# Altium schematic symbol library iuh-thuc-hanh.SchLib: 139 symbols
Pins are listed as number, name and electrical type; pins without a type are passive.

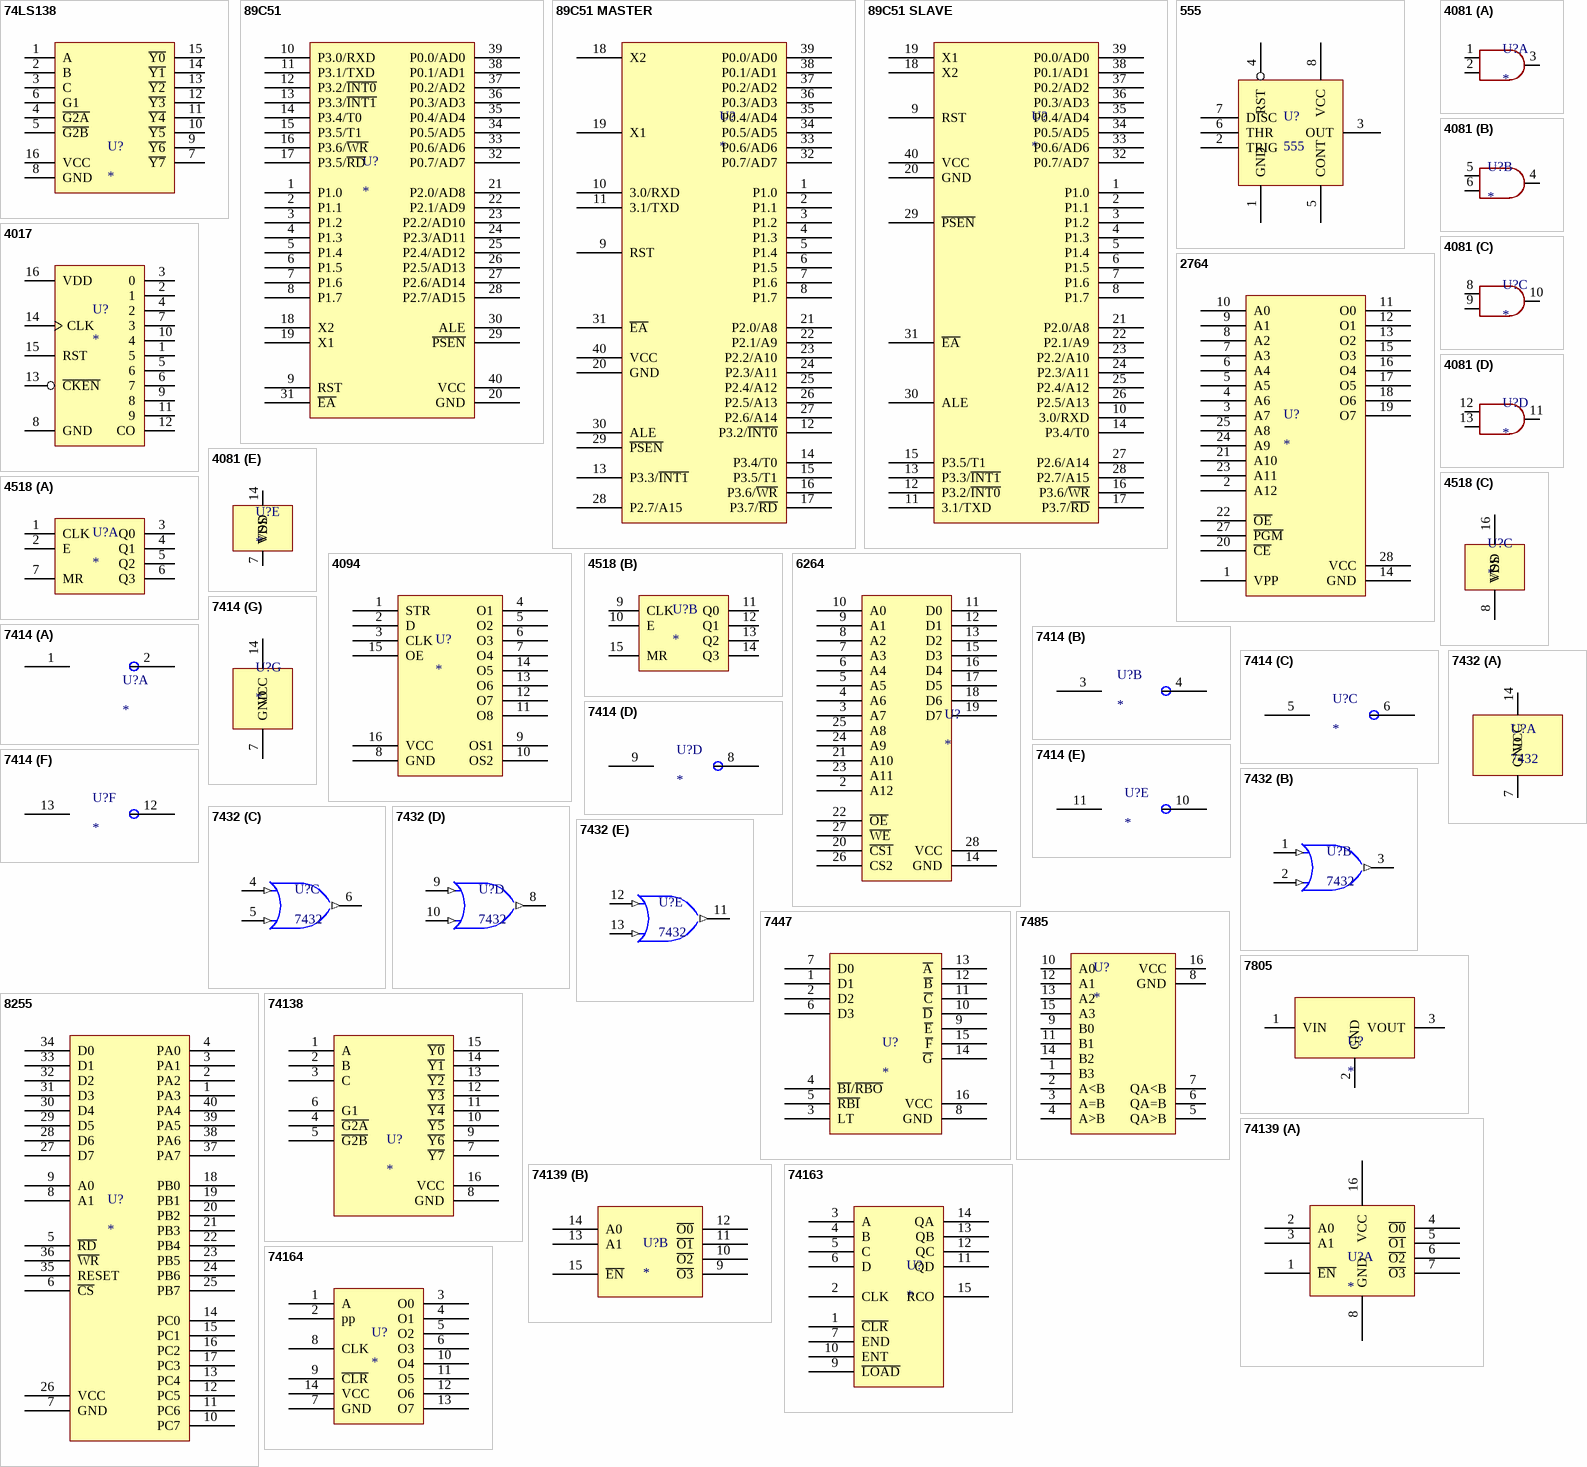
[diagram p0: symbols 74LS138 to 74164]

## 74LS138
designator U?
footprint DIP16 (16 PIN, W 300mil, Pin to pin 100mil)
pins: 1 A, 2 B, 3 C, 4 ~{G2A}, 5 ~{G2B}, 6 G1, 7 ~{Y7}, 8 GND, 9 ~{Y6}, 10 ~{Y5}, 11 ~{Y4}, 12 ~{Y3}, 13 ~{Y2}, 14 ~{Y1}, 15 ~{Y0}, 16 VCC

## 89C51
designator U?
footprint DIP40/W0.6 (40 PIN, W 600mil, Pin to pin 100mil)
pins: 1 P1.0, 2 P1.1, 3 P1.2, 4 P1.3, 5 P1.4, 6 P1.5, 7 P1.6, 8 P1.7, 9 RST, 10 P3.0/RXD, 11 P3.1/TXD, 12 P3.2/~{INT0}, 13 P3.3/~{INT1}, 14 P3.4/T0, 15 P3.5/T1, 16 P3.6/~{WR}, 17 P3.5/~{RD}, 18 X2, 19 X1, 20 GND, 21 P2.0/AD8, 22 P2.1/AD9, 23 P2.2/AD10, 24 P2.3/AD11, 25 P2.4/AD12, 26 P2.5/AD13, 27 P2.6/AD14, 28 P2.7/AD15, 29 ~{PSEN}, 30 ALE, 31 ~{EA}, 32 P0.7/AD7, 33 P0.6/AD6, 34 P0.5/AD5, 35 P0.4/AD4, 36 P0.3/AD3, 37 P0.2/AD2, 38 P0.1/AD1, 39 P0.0/AD0, 40 VCC

## 89C51 MASTER
designator U?
footprint DIP40/W0.6 (40 PIN, W 600mil, Pin to pin 100mil)
pins: 1 P1.0, 2 P1.1, 3 P1.2, 4 P1.3, 5 P1.4, 6 P1.5, 7 P1.6, 8 P1.7, 9 RST, 10 3.0/RXD, 11 3.1/TXD, 12 P3.2/~{INT0}, 13 P3.3/~{INT1}, 14 P3.4/T0, 15 P3.5/T1, 16 P3.6/~{WR}, 17 P3.7/~{RD}, 18 X2, 19 X1, 20 GND, 21 P2.0/A8, 22 P2.1/A9, 23 P2.2/A10, 24 P2.3/A11, 25 P2.4/A12, 26 P2.5/A13, 27 P2.6/A14, 28 P2.7/A15, 29 ~{PSEN}, 30 ALE, 31 ~{EA}, 32 P0.7/AD7, 33 P0.6/AD6, 34 P0.5/AD5, 35 P0.4/AD4, 36 P0.3/AD3, 37 P0.2/AD2, 38 P0.1/AD1, 39 P0.0/AD0, 40 VCC

## 89C51 SLAVE
designator U?
pins: 1 P1.0, 2 P1.1, 3 P1.2, 4 P1.3, 5 P1.4, 6 P1.5, 7 P1.6, 8 P1.7, 9 RST, 10 3.0/RXD, 11 3.1/TXD, 12 P3.2/~{INT0}, 13 P3.3/~{INT1}, 14 P3.4/T0, 15 P3.5/T1, 16 P3.6/~{WR}, 17 P3.7/~{RD}, 18 X2, 19 X1, 20 GND, 21 P2.0/A8, 22 P2.1/A9, 23 P2.2/A10, 24 P2.3/A11, 25 P2.4/A12, 26 P2.5/A13, 27 P2.6/A14, 28 P2.7/A15, 29 ~{PSEN}, 30 ALE, 31 ~{EA}, 32 P0.7/AD7, 33 P0.6/AD6, 34 P0.5/AD5, 35 P0.4/AD4, 36 P0.3/AD3, 37 P0.2/AD2, 38 P0.1/AD1, 39 P0.0/AD0, 40 VCC

## 555
designator U?
LM555; Manufacturer: National Semiconductor Corporation; ComponentLink1Description: Datasheet; ComponentLink1URL: https://datasheet.ciiva.com/19457/840579-19457377.pdf?src-supplier=Jameco
footprint DIP8 (8 PIN, Width 300mil, Pin to pin 100mil)
pins: 1 GND, 2 TRIG, 3 OUT, 4 RST, 5 CONT, 6 THR, 7 DISC, 8 VCC

## 2764
designator U?
pins: 1 VPP, 2 A12, 3 A7, 4 A6, 5 A5, 6 A4, 7 A3, 8 A2, 9 A1, 10 A0, 11 O0, 12 O1, 13 O2, 14 GND, 15 O3, 16 O4, 17 O5, 18 O6, 19 O7, 20 ~{CE}, 21 A10, 22 ~{OE}, 23 A11, 24 A9, 25 A8, 27 ~{PGM}, 28 VCC

## 4017
designator U?
footprint DIP16 (16 PIN, W 300mil, Pin to pin 100mil)
footprint SO16 (SOIC, 16-Leads, Body 9.90x3.91mm, Pitch 1.27mm, IPC Medium Density)
pins: 1 5, 2 1, 3 0, 4 2, 5 6, 6 7, 7 3, 8 GND, 9 8, 10 4, 11 9, 12 CO, 13 ~{CKEN}, 14 CLK, 15 RST, 16 VDD

## 4081
designator U?
AND LOGIC
footprint DIP14 (W.300/L.900)
part A pins: 1, 2, 3
part B pins: 4, 5, 6
part C pins: 8, 9, 10
part D pins: 11, 12, 13
part E pins: 7 VSS, 14 VDD

## 4094
designator U?
footprint DIP16 (16 PIN, W 300mil, Pin to pin 100mil)
pins: 1 STR, 2 D, 3 CLK, 4 O1, 5 O2, 6 O3, 7 O4, 8 GND, 9 OS1, 10 OS2, 11 O8, 12 O7, 13 O6, 14 O5, 15 OE, 16 VCC

## 4518
designator U?
footprint DIP16 (16 PIN, W 300mil, Pin to pin 100mil)
part A pins: 1 CLK, 2 E, 3 Q0, 4 Q1, 5 Q2, 6 Q3, 7 MR
part B pins: 9 CLK, 10 E, 11 Q0, 12 Q1, 13 Q2, 14 Q3, 15 MR
part C pins: 8 VSS, 16 VDD

## 6264
designator U?
pins: 2 A12, 3 A7, 4 A6, 5 A5, 6 A4, 7 A3, 8 A2, 9 A1, 10 A0, 11 D0, 12 D1, 13 D2, 14 GND, 15 D3, 16 D4, 17 D5, 18 D6, 19 D7, 20 ~{CS1}, 21 A10, 22 ~{OE}, 23 A11, 24 A9, 25 A8, 26 CS2, 27 ~{WE}, 28 VCC

## 7414
designator U?
footprint DIP14 (W.300/L.900)
part A pins: 1, 2
part B pins: 3, 4
part C pins: 5, 6
part D pins: 8, 9
part E pins: 10, 11
part F pins: 12, 13
part G pins: 7 GND, 14 VCC

## 7432
designator U?
OR logic
footprint DIP14 (W.300/L.900)
part A pins: 7 GND, 14 VCC
part B pins: 1 A (in), 2 B (in), 3 Y (out)
part C pins: 4 A (in), 5 B (in), 6 Y (out)
part D pins: 8 Y (out), 9 A (in), 10 B (in)
part E pins: 11 Y (out), 12 A (in), 13 B (in)

## 7447
designator U?
footprint DIP16 (16 PIN, W 300mil, Pin to pin 100mil)
pins: 1 D1, 2 D2, 3 LT, 4 ~{BI}/~{RBO}, 5 ~{RBI}, 6 D3, 7 D0, 8 GND, 9 ~{E}, 10 ~{D}, 11 ~{C}, 12 ~{B}, 13 ~{A}, 14 ~{G}, 15 ~{F}, 16 VCC

## 7485
designator U?
COMPARE IC
footprint DIP16 (16 PIN, W 300mil, Pin to pin 100mil)
pins: 1 B3, 2 A<B, 3 A=B, 4 A>B, 5 QA>B, 6 QA=B, 7 QA<B, 8 GND, 9 B0, 10 A0, 11 B1, 12 A1, 13 A2, 14 B2, 15 A3, 16 VCC

## 7805
designator U?
footprint TO220-123 (TO-220 - 1-2-3)
pins: 1 VIN, 2 GND, 3 VOUT

## 8255
designator U?
pins: 1 PA3, 2 PA2, 3 PA1, 4 PA0, 5 ~{RD}, 6 ~{CS}, 7 GND, 8 A1, 9 A0, 10 PC7, 11 PC6, 12 PC5, 13 PC4, 14 PC0, 15 PC1, 16 PC2, 17 PC3, 18 PB0, 19 PB1, 20 PB2, 21 PB3, 22 PB4, 23 PB5, 24 PB6, 25 PB7, 26 VCC, 27 D7, 28 D6, 29 D5, 30 D4, 31 D3, 32 D2, 33 D1, 34 D0, 35 RESET, 36 ~{WR}, 37 PA7, 38 PA6, 39 PA5, 40 PA4

## 74138
designator U?
footprint DIP16 (16 PIN, W 300mil, Pin to pin 100mil)
pins: 1 A, 2 B, 3 C, 4 ~{G2A}, 5 ~{G2B}, 6 G1, 7 ~{Y7}, 8 GND, 9 ~{Y6}, 10 ~{Y5}, 11 ~{Y4}, 12 ~{Y3}, 13 ~{Y2}, 14 ~{Y1}, 15 ~{Y0}, 16 VCC

## 74139
designator U?
footprint DIP16 (16 PIN, W 300mil, Pin to pin 100mil)
part A pins: 1 ~{EN}, 2 A0, 3 A1, 4 ~{O0}, 5 ~{O1}, 6 ~{O2}, 7 ~{O3}, 8 GND, 16 VCC
part B pins: 9 ~{O3}, 10 ~{O2}, 11 ~{O1}, 12 ~{O0}, 13 A1, 14 A0, 15 ~{EN}

## 74163
designator U?
pins: 1 ~{CLR}, 2 CLK, 3 A, 4 B, 5 C, 6 D, 7 END, 9 ~{LOAD}, 10 ENT, 11 QD, 12 QC, 13 QB, 14 QA, 15 RCO

## 74164
designator U?
footprint DIP14 (W.300/L.900)
pins: 1 A, 2 pp, 3 O0, 4 O1, 5 O2, 6 O3, 7 GND, 8 CLK, 9 ~{CLR}, 10 O4, 11 O5, 12 O6, 13 O7, 14 VCC

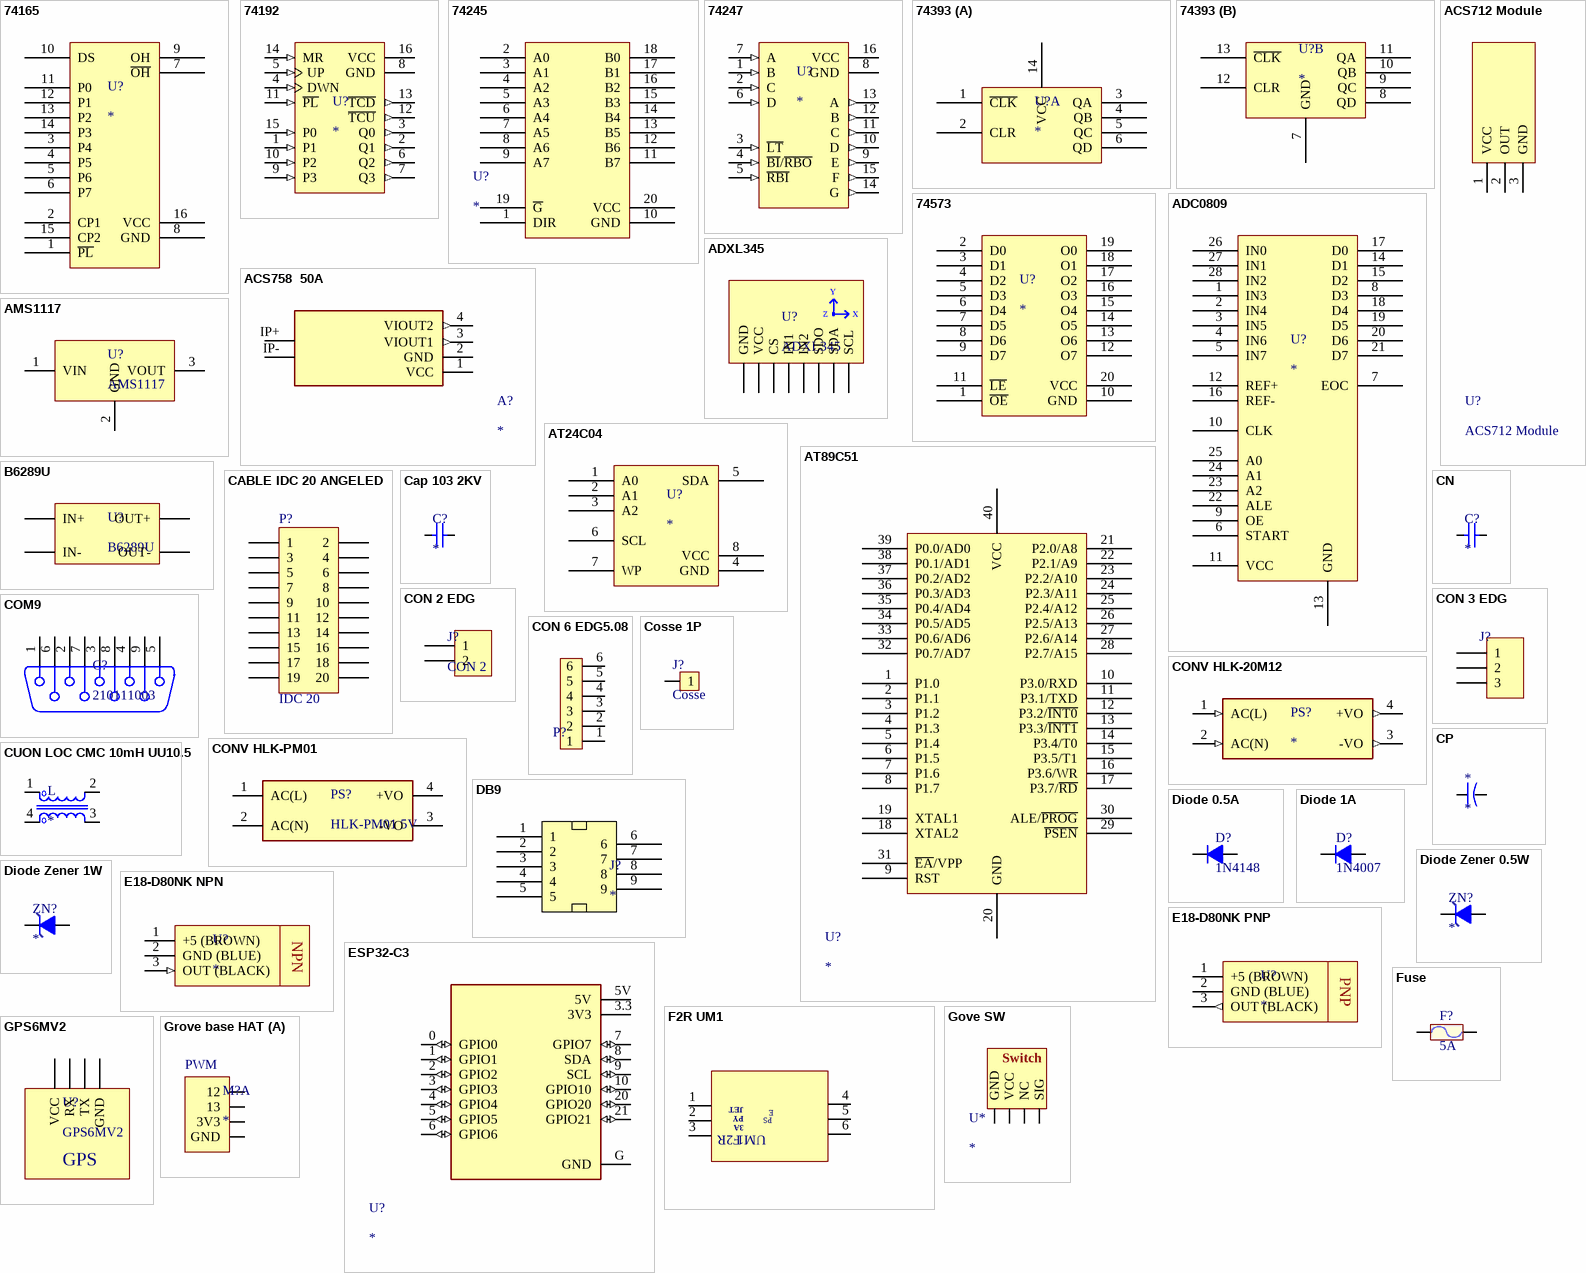
[diagram p1: symbols 74165 to Grove base HAT]

## 74165
designator U?
footprint DIP16 (16 PIN, W 300mil, Pin to pin 100mil)
pins: 1 ~{PL}, 2 CP1, 3 P4, 4 P5, 5 P6, 6 P7, 7 ~{OH}, 8 GND, 9 OH, 10 DS, 11 P0, 12 P1, 13 P2, 14 P3, 15 CP2, 16 VCC

## 74192
designator U?
ComponentLink1Description: Datasheet; ComponentLink1URL: https://pdf1.alldatasheet.com/datasheet-pdf/view/5681/MOTOROLA/74LS192.html
footprint DIP16 (16 PIN, W 300mil, Pin to pin 100mil)
pins: 1 P1 (in), 2 Q1 (out), 3 Q0 (out), 4 DWN (in), 5 UP (in), 6 Q2 (out), 7 Q3 (out), 8 GND (power), 9 P3 (in), 10 P2 (in), 11 ~{PL} (in), 12 ~{TCU} (out), 13 ~{TCD} (out), 14 MR (in), 15 P0 (in), 16 VCC (oe)

## 74245
designator U?
footprint DIP20 (DIP 20, 20 PIN, W 300mil, Pin to pin 100mil)
pins: 1 DIR, 2 A0, 3 A1, 4 A2, 5 A3, 6 A4, 7 A5, 8 A6, 9 A7, 10 GND, 11 B7, 12 B6, 13 B5, 14 B4, 15 B3, 16 B2, 17 B1, 18 B0, 19 ~{G}, 20 VCC

## 74247
designator U?
footprint DIP16 (16 PIN, W 300mil, Pin to pin 100mil)
pins: 1 B (in), 2 C (in), 3 ~{LT} (in), 4 ~{BI}/~{RBO} (in), 5 ~{RBI} (in), 6 D (in), 7 A (in), 8 GND, 9 E (out), 10 D (out), 11 C (out), 12 B (out), 13 A (out), 14 G (out), 15 F (out), 16 VCC

## 74393
designator U?
footprint DIP14 (W.300/L.900)
part A pins: 1 ~{CLK}, 2 CLR, 3 QA, 4 QB, 5 QC, 6 QD, 14 VCC
part B pins: 7 GND, 8 QD, 9 QC, 10 QB, 11 QA, 12 CLR, 13 ~{CLK}

## 74573
designator U?
footprint DIP20 (DIP 20, 20 PIN, W 300mil, Pin to pin 100mil)
pins: 1 ~{OE}, 2 D0, 3 D1, 4 D2, 5 D3, 6 D4, 7 D5, 8 D6, 9 D7, 10 GND, 11 ~{LE}, 12 O7, 13 O6, 14 O5, 15 O4, 16 O3, 17 O2, 18 O1, 19 O0, 20 VCC

## ACS712 Module
designator U?
footprint ACS712 Module
pins: 1 VCC, 2 OUT, 3 GND

## ACS758  50A
designator A?
Current Sensor 50A 1 Channel Hall Effect, Open Loop Unidirectional 5-CB Formed Leads, PFF; MF: Allegro MicroSystems LLC; MP: ACS758LCB-100U-PFF-T; SnapEDA_Link: https://www.snapeda.com/parts/ACS758LCB-100U-PFF-T/Allegro+MicroSystems+LLC/view-part/?ref=snap; Package: 5-CB-5 Allegro MicroSystems LLC; Value: *; Check_prices: https://www.snapeda.com/parts/ACS758LCB-100U-PFF-T/Allegro+MicroSystems+LLC/view-part/?ref=eda
footprint ACS758LCB  50A
pins: 1 VCC (power), 2 GND (power), 3 VIOUT1 (out), 4 VIOUT2 (out), IP+ (power), IP- (power)

## ADC0809
designator U?
pins: 1 IN3, 2 IN4, 3 IN5, 4 IN6, 5 IN7, 6 START, 7 EOC, 8 D3, 9 OE, 10 CLK, 11 VCC, 12 REF+, 13 GND, 14 D1, 15 D2, 16 REF-, 17 D0, 18 D4, 19 D5, 20 D6, 21 D7, 22 ALE, 23 A2, 24 A1, 25 A0, 26 IN0, 27 IN1, 28 IN2

## ADXL345
designator U?
Module Cam bien gia toc
pins: 1 GND, 2 VCC, 3 CS, 4 IN1, 5 IN2, 6 SDO, 7 SDA, 8 SCL
text: Y; Z; X

## AMS1117
designator U?
pins: 1 VIN, 2 GND, 3 VOUT

## AT24C04
designator U?
pins: 1 A0, 2 A1, 3 A2, 4 GND, 5 SDA, 6 SCL, 7 WP, 8 VCC

## AT89C51
designator U?
pins: 1 P1.0, 2 P1.1, 3 P1.2, 4 P1.3, 5 P1.4, 6 P1.5, 7 P1.6, 8 P1.7, 9 RST, 10 P3.0/RXD, 11 P3.1/TXD, 12 P3.2/~{INT0}, 13 P3.3/~{INT1}, 14 P3.4/T0, 15 P3.5/T1, 16 P3.6/WR, 17 P3.7/~{RD}, 18 XTAL2, 19 XTAL1, 20 GND, 21 P2.0/A8, 22 P2.1/A9, 23 P2.2/A10, 24 P2.3/A11, 25 P2.4/A12, 26 P2.5/A13, 27 P2.6/A14, 28 P2.7/A15, 29 ~{PSEN}, 30 ALE/~{PROG}, 31 ~{EA}/VPP, 32 P0.7/AD7, 33 P0.6/AD6, 34 P0.5/AD5, 35 P0.4/AD4, 36 P0.3/AD3, 37 P0.2/AD2, 38 P0.1/AD1, 39 P0.0/AD0, 40 VCC

## B6289U
designator U?
Module Buck Boost 5V
pins: 1 IN+, 2 IN-, 3 OUT+, 4 OUT-

## CABLE IDC 20 ANGELED
designator P?, comment IDC 20
Header, 10-Pin, Dual row; LatestRevisionDate: 17-Jul-2002; LatestRevisionNote: Re-released for DXP Platform.; Publisher: Altium Limited
footprint CABLE IDC 20 ANGELED (Connector; Header; 5x2 Position)
pins: 1, 2, 3, 4, 5, 6, 7, 8, 9, 10, 11, 12, 13, 14, 15, 16, 17, 18, 19, 20

## Cap 103 2KV
designator C?
Capacitor Ceramic 2KV
footprint Cap 7.5mm
pins: 1, 2

## CN
designator C?
Capacitor
footprint Cap 7.5mm
footprint Cap 2.54mm
footprint Cap 3.81mm
footprint Cap 5.08mm
footprint Cap 6.35mm (Tu pin to pin 250mil)
footprint Cap 10mm (Cap np W 0.4)
footprint Cap 15mm
footprint Cap 15mm CBB
footprint Cap 22.5mm
pins: 1, 2

## COM9
designator C?, comment 210111003
DB9 RS232 D-SUB-Filter Connectors WE-DS, Solder Pin Straight; Manufacturer: Würth Elektronik eiSos GmbH; partNo: 210111003; ComponentLink1Description: Manufacturer; ComponentLink1URL: http://www.we-online.de; Created by: Christin Zierenner; Created Date: May 2012; ComponentLink2Description: Datasheet; ComponentLink2URL: http://katalog.we-online.de/kataloge/eisos/index.php?language=en&pf=Filter_gerade
footprint COM9A (D-SUB- 9P, MALE, RT ANGLE, TH)
footprint COM9C (D-SUB- 9P, MALE, SOLDER BUCKET VERTICAL MOUNT, TH)
footprint COM9SMDA (D-SUB- 9P, MALE, RT ANGLE, SMT)
pins: 1, 2, 3, 4, 5, 6, 7, 8, 9

## CON 2 EDG
designator J?, comment CON 2
CON2 KF terminal
footprint Con 2 KF301 5.08
footprint CON 2 KF142 5.08 CONG
footprint CON 2 HB9500 (Header 2: 300V-20A, 2 pin, hight 300mil, Pin to Pin 400, Colour Green)
footprint CON 2 KF7.62
footprint KF2-3.5 (3,50mm - modular - blue - Horizontal wire entry - Pressure clamp - 8,4mm height - 02p)
footprint KF2-7.62
footprint CON 2 HT3.96
footprint CON 2 2EDG5.08
footprint CON 2 2EDG5.08 B
pins: 1, 2

## CON 3 EDG
designator J?
CON3 KF terminal
footprint CON 3 2EDG5.08
footprint CON 3 2EDG5.08 B
footprint KF3-3.96 (3,96mm - modular - green - Horizontal wire entry - Pressure clamp - 10mm height - 03p)
footprint KF3-3.5 (3,50mm - modular - blue - Horizontal wire entry - Pressure clamp - 8,4mm height - 03p)
footprint KF3-3.96-T1 (3,96mm - modular - blue - Horizontal wire entry - Pressure clamp - 10mm height - 03p)
footprint KF3-5.08
footprint KF3-5.08T (Header 3, 3 pin, hight 300mil, Pin to Pin 200, Colour Green)
footprint KF3-7.62
footprint KF3-8.5
footprint KF3-10 (Serie 1368 - 10.00 mm _ 3 pins)
pins: 1, 2, 3

## CON 6 EDG5.08
designator P?, comment CON6  (value not drawn)
Ten_Linh_Kien: CON 8 2EDG5.08-8P 5.08MM ( Xanh Cong); Don_Vi: Con; Ma_Hang: MH000978; Chung_Loai: Cắm; Ghi_Chu: *; Kieu_Chan: *
footprint CON 6 6EDG5.08
pins: 1, 2, 3, 4, 5, 6

## CONV HLK-20M12
designator PS?
20W ultra-small series module power supply; MF: Hi-link; MP: HLK-20M12; Check_prices: https://www.snapeda.com/parts/HLK-20M12/Hi-link/view-part/?ref=eda; SnapEDA_Link: https://www.snapeda.com/parts/HLK-20M12/Hi-link/view-part/?ref=snap; Availability: Not in stock; Price: None; Value: *; Package: Non-Standard Hi-link
footprint CONV_HLK-20W
pins: 1 AC(L) (in), 2 AC(N) (in), 3 -VO (out), 4 +VO (out)

## CONV HLK-PM01
designator PS?, comment HLK-PM01 5V
220VAC to 5V
footprint CONV_HLK-10W
footprint CONV_HLK-5M05-5W
footprint CONV_HLK-PM01-3W
footprint CONV_HLK-20W
pins: 1 AC(L) (power), 2 AC(N) (power), 3 -VO (power), 4 +VO (power)

## Cosse 1P
designator J?, comment Cosse
footprint Cosse 6.3
pins: 1

## CP
designator *
Capacitor
pins: 1, 2

## CUON LOC CMC 10mH UU10.5
designator L
Common Mode Chokes 10mH UU10.5; MP: BU9-103R25BL; MF: Boca Semiconductor; Package: None; SnapEDA_Link: https://www.snapeda.com/parts/BU9-103R25BL/Boca%20Semiconductor/view-part/2767297/?ref=snap; Value: *; Availability: Unavailable; Price: None; VN_link: https://linhkienchatluong.vn/cac-loai-khac/cuon-loc-10mh-08mm-uu16-22x26x19mm_sp925_ct9256.aspx
footprint CMC UU10.5
pins: 1, 2, 3, 4

## DB9
designator J?
pins: 1, 2, 3, 4, 5, 6, 7, 8, 9

## Diode 0.5A
designator D?, comment 1N4148
Diode 0.5A 1N4148 DO-35
footprint DO-35 (Diode 0.5A)
footprint DO-35 Axial (Diode 0.5A Axial)
pins: 1 A, 2 K

## Diode 1A
designator D?, comment 1N4007
Diode 1A 1N4007 DO-41
footprint DO-41 (Diode 1A)
footprint DO-41 Axial (Diode 1A Axial)
pins: 1 A, 2 K

## Diode Zener 0.5W
designator ZN?
footprint DO-35 (Diode 0.5A)
footprint DO-35 Axial (Diode 0.5A Axial)
pins: 1 A, 2 K

## Diode Zener 1W
designator ZN?
footprint DO-41 (Diode 1A)
footprint DO-41 Axial (Diode 1A Axial)
pins: 1 A, 2 K

## E18-D80NK NPN
designator U?
footprint E18-D80NK (Cam bien khoang cach hong ngoai)
pins: 1 +5 (BROWN), 2 GND (BLUE), 3 OUT (BLACK) (in)
text: NPN

## E18-D80NK PNP
designator U?
footprint E18-D80NK (Cam bien khoang cach hong ngoai)
pins: 1 +5 (BROWN), 2 GND (BLUE), 3 OUT (BLACK) (out)
text: PNP

## ESP32-C3
designator U?
footprint ESP32-C3-PCP
footprint ESP32-C3-SMD
pins: 0 GPIO0 (io), 1 GPIO1 (io), 2 GPIO2 (io), 3 GPIO3 (io), 3.3 3V3 (power), 4 GPIO4 (io), 5 GPIO5 (io), 5V (power), 6 GPIO6 (io), 7 GPIO7 (io), 8 SDA (io), 9 SCL (io), 10 GPIO10 (io), 20 GPIO20 (io), 21 GPIO21 (io), G GND (power)

## F2R UM1
designator *
footprint F2R UM1
pins: 1 Fin, 2 Fin, 3 Fin, 4 FOUT, 5 FOUT, 6 FOUT
text: JET; E; PY; PS; 3A; F2R; UM1

## Fuse
designator F?, comment 5A
Fuse; Designed by: VanDungEvn; Value: Fuse
footprint Fuse 520 (5x20mm d=28mm)
footprint Fuse vertical (d=5mm)
footprint FUSE HOLDER 520 (De Fuse)
footprint Fuse rectangular (5.08 0.6)
pins: 1, 2

## Gove SW
designator U*
pins: 34 GND, 35 VCC, 36 NC, 37 SIG
text: Switch

## GPS6MV2
designator U?
Module GPS
pins: 1 VCC, 2 RX, 3 TX, 4 GND
text: GPS

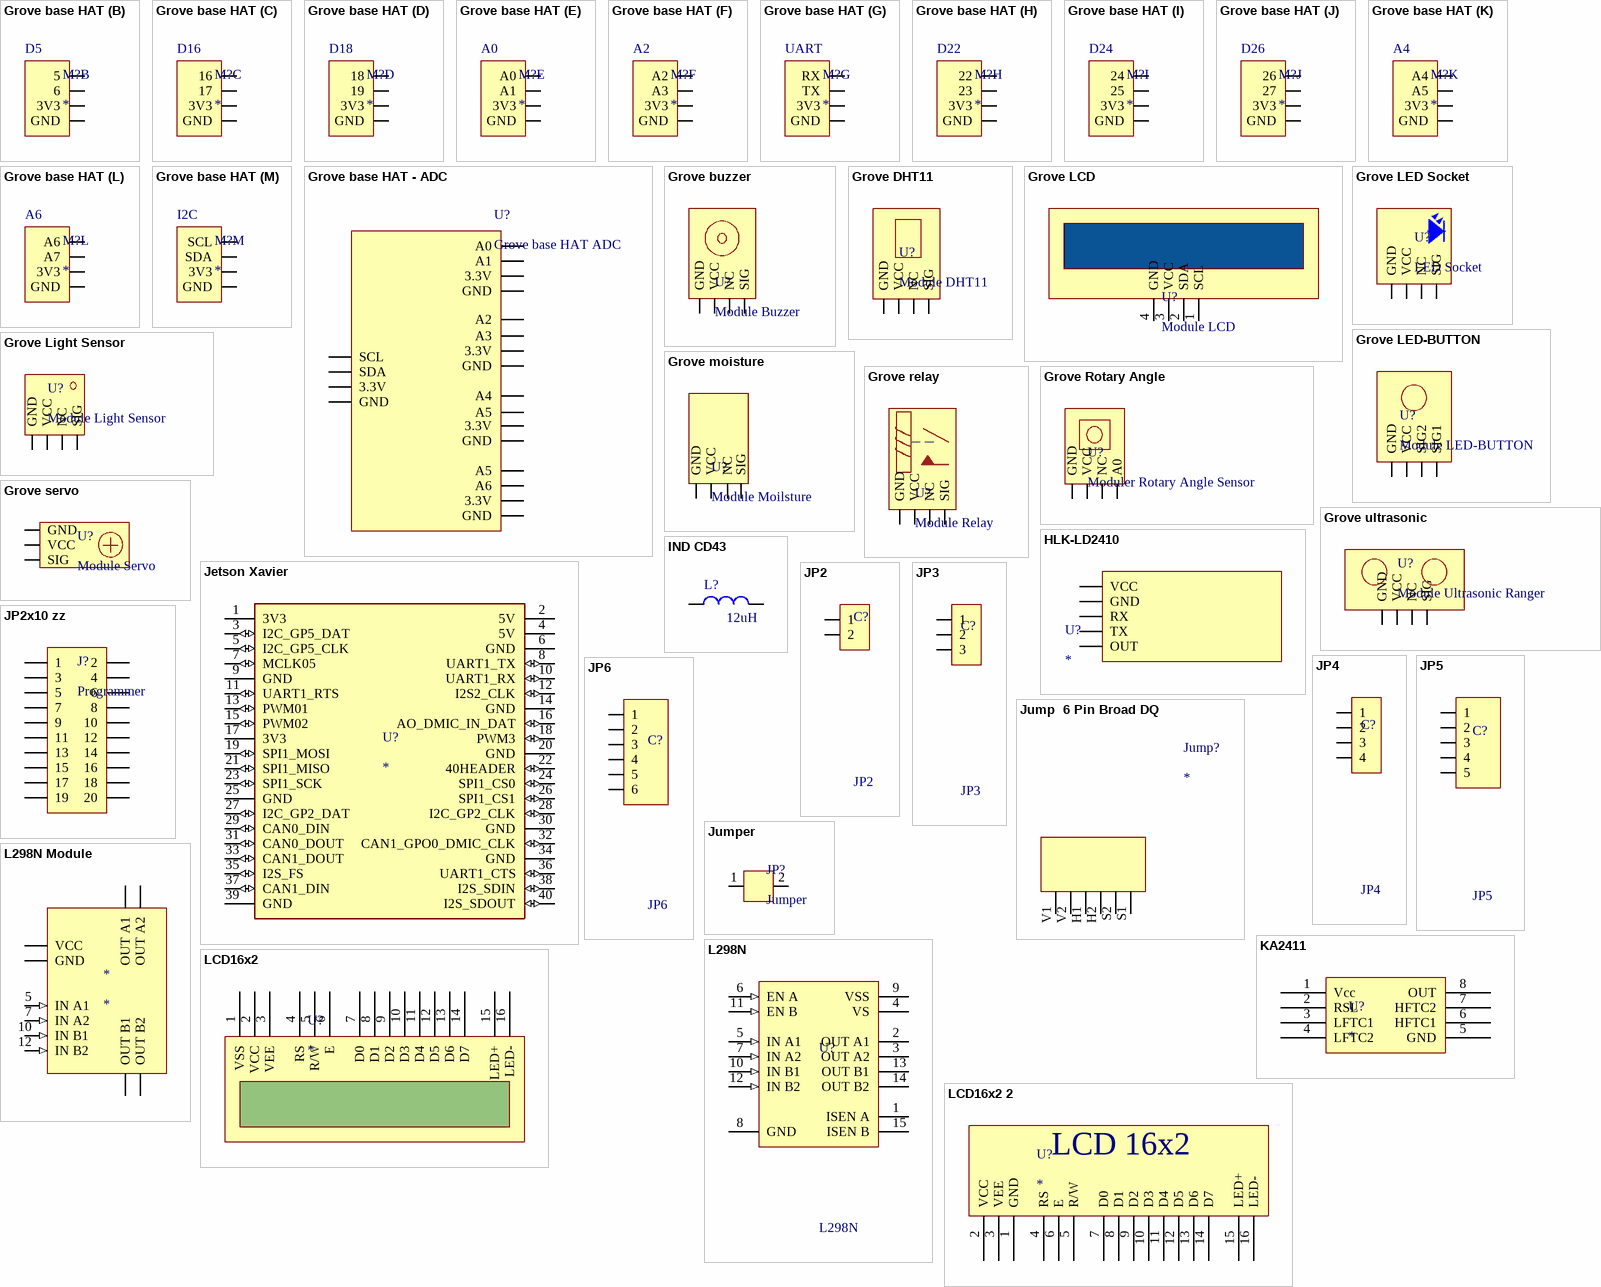
[diagram p2: symbols Grove base HAT to LCD16x2 2]

## Grove base HAT
designator M?
part A pins: 25 12, 26 13, 27 3V3, 28 GND
part B pins: 25 5, 26 6, 27 3V3, 28 GND
part C pins: 25 16, 26 17, 27 3V3, 28 GND
part D pins: 25 18, 26 19, 27 3V3, 28 GND
part E pins: 25 A0, 26 A1, 27 3V3, 28 GND
part F pins: 26 A3, 27 3V3, 28 GND, ? A2
part G pins: 25 RX, 26 TX, 27 3V3, 28 GND
part H pins: 25 22, 26 23, 27 3V3, 28 GND
part I pins: 25 24, 26 25, 27 3V3, 28 GND
part J pins: 25 26, 26 27, 27 3V3, 28 GND
part K pins: 25 A4, 26 A5, 27 3V3, 28 GND
part L pins: 25 A6, 26 A7, 27 3V3, 28 GND
part M pins: 25 SCL, 26 SDA, 27 3V3, 28 GND
part A text: PWM
part B text: D5
part C text: D16
part D text: D18
part G text: UART
part H text: D22
part I text: D24
part J text: D26
part M text: I2C

## Grove base HAT - ADC
designator U?, comment Grove base HAT ADC
pins: 44 A1, 44 SDA, 45 3.3V, 45 A2, 45 3.3V, 45 3.3V, 45 3.3V, 46 GND, 46 A3, 46 A4, 46 3.3V, 46 GND, 46 GND, 46 GND, 47 A5, 47 GND, 47 A5, 48 A6, ?1 A0, ?2 SCL

## Grove buzzer
designator U?, comment Module Buzzer
pins: 38 GND, 39 VCC, 40 NC, 41 SIG

## Grove DHT11
designator U?, comment Module DHT11
pins: 38 GND, 39 VCC, 40 NC, 41 SIG

## Grove LCD
designator U?, comment Module LCD
pins: 1 SCL, 2 SDA, 3 VCC, 4 GND

## Grove LED Socket
designator U?, comment LED Socket
pins: 38 GND, 39 VCC, 40 NC, 41 SIG

## Grove LED-BUTTON
designator U?, comment Module LED-BUTTON
pins: 30 VCC, 31 SIG2, 32 SIG1, GND

## Grove Light Sensor
designator U?, comment Module Light Sensor
pins: 34 GND, 35 VCC, 36 NC, 37 SIG

## Grove moisture
designator U?, comment Module Moilsture
pins: 42 GND, 43 VCC, 44 SIG, 45 NC

## Grove relay
designator U?, comment Module Relay
pins: 38 GND, 39 VCC, 40 NC, 41 SIG

## Grove Rotary Angle
designator U?, comment Moduler Rotary Angle Sensor
pins: 34 GND, 35 VCC, 36 NC, 37 A0

## Grove servo
designator U?, comment Module Servo
pins: 39 GND, 40 VCC, 41 SIG

## Grove ultrasonic
designator U?, comment Module Ultrasonic Ranger
pins: 35 NC, GND, SIG, VCC

## HLK-LD2410
designator U?
HLK-LD2410B-P Cam bien hien dien
footprint HLK-LD2410
pins: 1 OUT, 2 TX, 3 RX, 4 GND, 5 VCC

## IND CD43
designator L?, comment 12uH
Cuon cam CD43 120MC 12uH Inductor; Value: 150 mH
footprint IND CD43
pins: 1, 2

## Jetson Xavier
designator U?
pins: 1 3V3 (power), 2 5V (power), 3 I2C_GP5_DAT (io), 4 5V (power), 5 I2C_GP5_CLK (io), 6 GND (power), 7 MCLK05 (io), 8 UART1_TX (io), 9 GND (power), 10 UART1_RX (io), 11 UART1_RTS (io), 12 I2S2_CLK (io), 13 PWM01 (io), 14 GND (power), 15 PWM02 (io), 16 AO_DMIC_IN_DAT (io), 17 3V3 (power), 18 PWM3 (io), 19 SPI1_MOSI (io), 20 GND (power), 21 SPI1_MISO (io), 22 40HEADER (io), 23 SPI1_SCK (io), 24 SPI1_CS0 (io), 25 GND (power), 26 SPI1_CS1 (io), 27 I2C_GP2_DAT (io), 28 I2C_GP2_CLK (io), 29 CAN0_DIN (io), 30 GND (power), 31 CAN0_DOUT (io), 32 CAN1_GPO0_DMIC_CLK (io), 33 CAN1_DOUT (io), 34 GND (power), 35 I2S_FS (io), 36 UART1_CTS (io), 37 CAN1_DIN (io), 38 I2S_SDIN (io), 39 GND (power), 40 I2S_SDOUT (io)

## JP2
designator C?
WR-PHD 2.54 mm Angled Socket Header; Manufacturer: W¨¹rth Elektronik eiSos GmbH; partNo: 613002143121; ComponentLink1 Description: Manufacturer; ComponentLink2 Description: Datasheet; NoPins: 02; Created Date: 29 March 2013; ComponentLink1URL: http://www.we-online.com; ComponentLink2URL: http://katalog.we-online.de/em/datasheet/6130xx143121.pdf; Created by: Karrer Zheng
footprint JP2-SMD-2.54
pins: 1, 2

## JP2x10 zz
designator J?, comment Programmer
pins: 1, 2, 3, 4, 5, 6, 7, 8, 9, 10, 11, 12, 13, 14, 15, 16, 17, 18, 19, 20

## JP3
designator C?
WR-PHD 2.54 mm Angled Socket Header; Manufacturer: W¨¹rth Elektronik eiSos GmbH; partNo: 613003143121; ComponentLink1 Description: Manufacturer; ComponentLink2 Description: Datasheet; NoPins: 03; Created Date: 29 March 2013; ComponentLink1URL: http://www.we-online.com; ComponentLink2URL: http://katalog.we-online.de/em/datasheet/6130xx143121.pdf; Created by: Karrer Zheng
footprint JP3-SMD-2.54
pins: 1, 2, 3

## JP4
designator C?
WR-PHD 2.54 mm Angled Socket Header; Manufacturer: W¨¹rth Elektronik eiSos GmbH; partNo: 613004143121; ComponentLink1 Description: Manufacturer; ComponentLink2 Description: Datasheet; NoPins: 04; Created Date: 29 March 2013; ComponentLink1URL: http://www.we-online.com; ComponentLink2URL: http://katalog.we-online.de/em/datasheet/6130xx143121.pdf; Created by: Karrer Zheng
footprint JP4-SMD-2.54
pins: 1, 2, 3, 4

## JP5
designator C?
WR-PHD 2.54 mm Angled Socket Header; Manufacturer: W¨¹rth Elektronik eiSos GmbH; partNo: 613005143121; ComponentLink1 Description: Manufacturer; ComponentLink2 Description: Datasheet; NoPins: 05; Created Date: 29 March 2013; ComponentLink1URL: http://www.we-online.com; ComponentLink2URL: http://katalog.we-online.de/em/datasheet/6130xx143121.pdf; Created by: Karrer Zheng
footprint JP5-SMD-2.54
pins: 1, 2, 3, 4, 5

## JP6
designator C?
WR-PHD 2.54 mm Angled Socket Header; Manufacturer: W¨¹rth Elektronik eiSos GmbH; partNo: 613006143121; ComponentLink1 Description: Manufacturer; ComponentLink2 Description: Datasheet; NoPins: 06; Created Date: 29 March 2013; ComponentLink1URL: http://www.we-online.com; ComponentLink2URL: http://katalog.we-online.de/em/datasheet/6130xx143121.pdf; Created by: Karrer Zheng
footprint JP6-SMD-2.54
pins: 1, 2, 3, 4, 5, 6

## Jump  6 Pin Broad DQ
designator Jump?
footprint Jump 6 pin DQ
pins: H1, H2, S1, S2, V1, V2

## Jumper
designator JP?
jump 2.54 jump 5.08
footprint Jumper 5.08
pins: 1, 2

## KA2411
designator U?
footprint DIP8 (8 PIN, Width 300mil, Pin to pin 100mil)
pins: 1 Vcc, 2 RSL, 3 LFTC1, 4 LFTC2, 5 GND, 6 HFTC1, 7 HFTC2, 8 OUT

## L298N
designator U?
Dual Full-H Driver; Note: The tab is elec is connected to GND pin; Published: 15-May-2002; DatasheetVersion: Jun-1990; PackageReference: KV015; Publisher: Altium Limited; PackageDescription: TO, Thru-Hole, Vertical, Heatsink Mounted; 15 Bent Staggered Leads; Pitch 1.27 mm; ComponentLink1Description: Manufacturer Link; ComponentLink1URL: http://www.ti.com/
footprint DIP15SL2
footprint DIP15SL2-T
pins: 1 ISEN A, 2 OUT A1 (hiz), 3 OUT A2 (hiz), 4 VS (power), 5 IN A1 (in), 6 EN A (in), 7 IN A2 (in), 8 GND (power), 9 VSS (power), 10 IN B1 (in), 11 EN B (in), 12 IN B2 (in), 13 OUT B1 (hiz), 14 OUT B2 (hiz), 15 ISEN B

## L298N Module
designator *
pins: 1 VCC (power), 2 OUT A1 (hiz), 2 GND (power), 3 OUT A2 (hiz), 5 IN A1 (in), 7 IN A2 (in), 10 IN B1 (in), 12 IN B2 (in), 13 OUT B1 (hiz), 14 OUT B2 (hiz)

## LCD16x2
designator U?
LCD 16x2
pins: 1 VSS, 2 VCC, 3 VEE, 4 RS, 5 R/W, 6 E, 7 D0, 8 D1, 9 D2, 10 D3, 11 D4, 12 D5, 13 D6, 14 D7, 15 LED+, 16 LED-

## LCD16x2 2
designator U?
LCD 16x2
pins: 1 GND, 2 VCC, 3 VEE, 4 RS, 5 R/W, 6 E, 7 D0, 8 D1, 9 D2, 10 D3, 11 D4, 12 D5, 13 D6, 14 D7, 15 LED+, 16 LED-

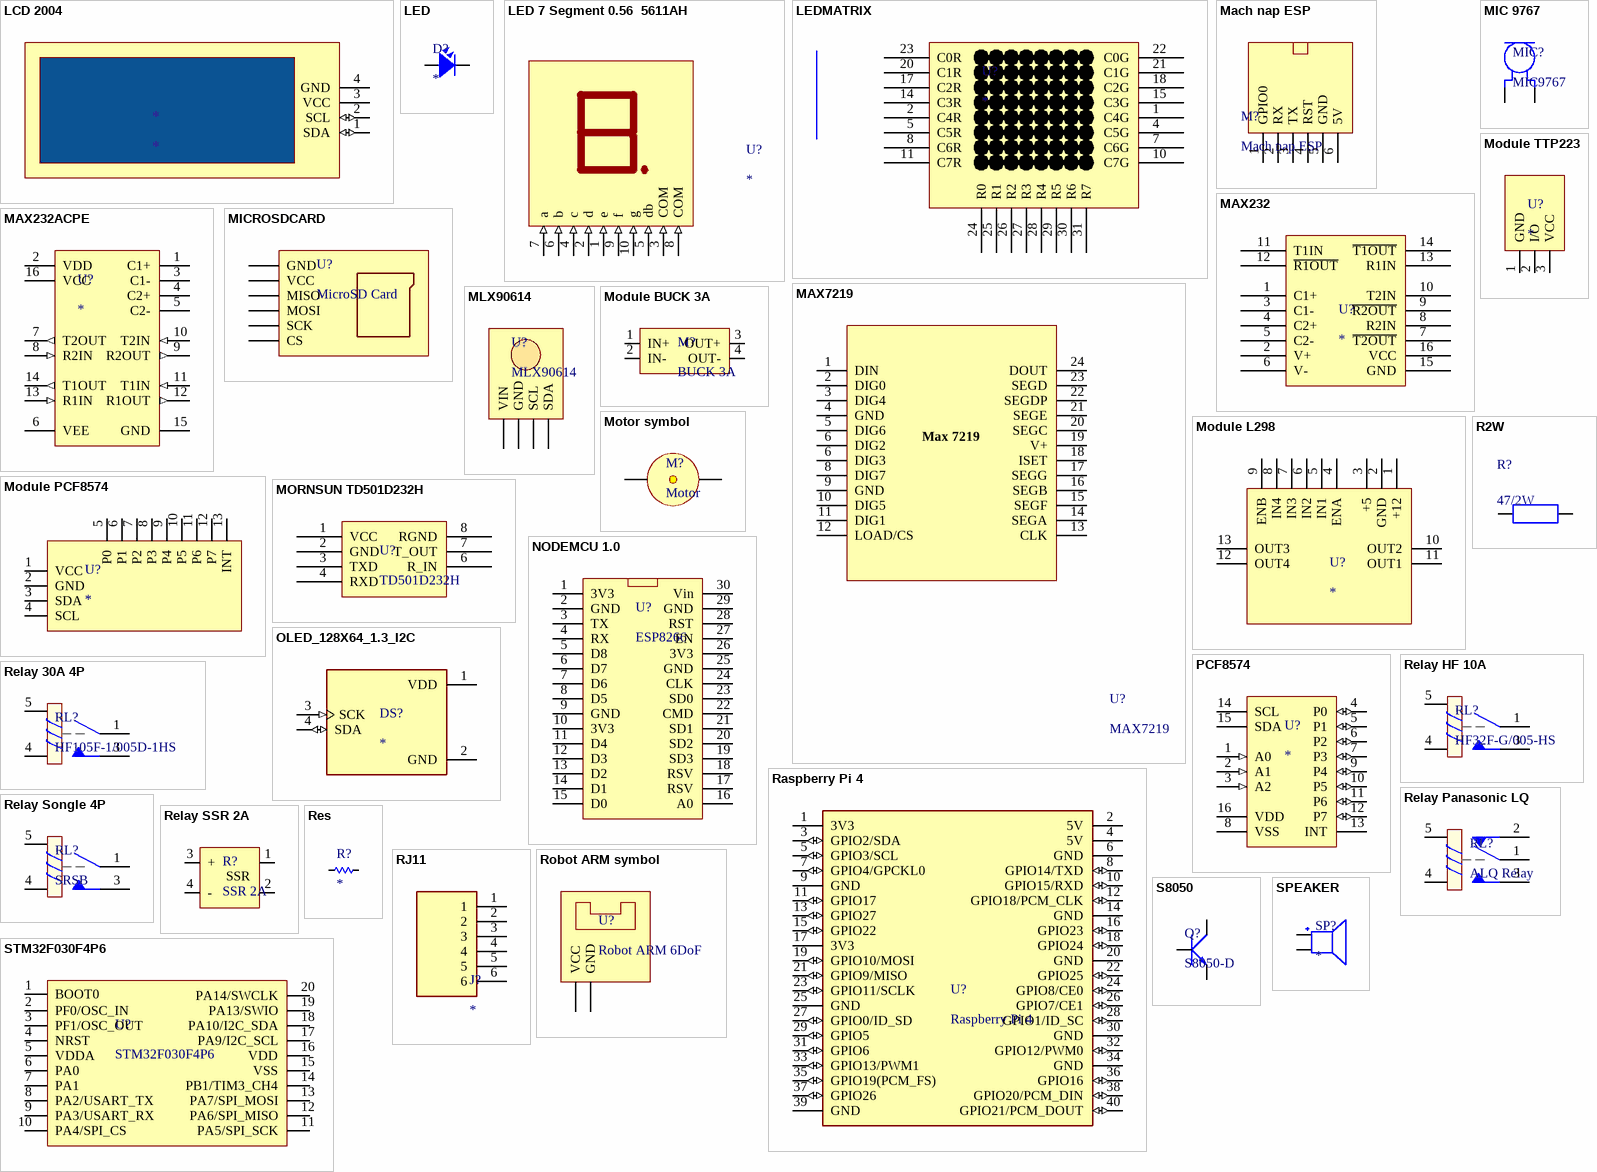
[diagram p3: symbols LCD 2004 to STM32F030F4P6]

## LCD 2004
designator *
pins: 1 SDA (io), 2 SCL (io), 3 VCC (power), 4 GND (power)

## LED
designator D?
footprint LED-5MM-RED (LED 2 PIN, 5mm, Only colour,pin to pin 100mil)
pins: 1, 2

## LED 7 Segment 0.56  5611AH
designator U?
5611AH Anode chung
footprint LED7SEG-0.56
pins: 1 e (in), 2 d (in), 3 COM (in), 4 c (in), 5 db (in), 6 b (in), 7 a (in), 8 COM (in), 9 f (in), 10 g (in)

## LEDMATRIX
designator U?
pins: 1 C4G, 2 C4R, 4 C5G, 5 C5R, 7 C6G, 8 C6R, 10 C7G, 11 C7R, 14 C3R, 15 C3G, 17 C2R, 18 C2G, 20 C1R, 21 C1G, 22 C0G, 23 C0R, 24 R0, 25 R1, 26 R2, 27 R3, 28 R4, 29 R5, 30 R6, 31 R7

## Mach nap ESP
designator M?
ComponentLink1Description: Datasheet; ComponentLink1URL: https://linhkienthuduc.com/san-pham/usb-uart-ch340-kiem-mach-nap-esp32-esp8266-cong-type-c-v1/
footprint MACH NAP ESP
pins: 1 GPIO0, 2 RX, 3 TX, 4 RST, 5 GND, 6 5V

## MAX232
designator U?
footprint DIP16 (16 PIN, W 300mil, Pin to pin 100mil)
pins: 1 C1+, 2 V+, 3 C1-, 4 C2+, 5 C2-, 6 V-, 7 ~{T2OUT}, 8 R2IN, 9 ~{R2OUT}, 10 T2IN, 11 T1IN, 12 ~{R1OUT}, 13 R1IN, 14 ~{T1OUT}, 15 GND, 16 VCC

## MAX232ACPE
designator U?
footprint DIP16 (16 PIN, W 300mil, Pin to pin 100mil)
pins: 1 C1+, 2 VDD, 3 C1-, 4 C2+, 5 C2-, 6 VEE, 7 T2OUT (out), 8 R2IN (in), 9 R2OUT (out), 10 T2IN (in), 11 T1IN (in), 12 R1OUT (out), 13 R1IN (in), 14 T1OUT (out), 15 GND, 16 VCC

## MAX7219
designator U?
https://www.alldatasheet.vn/datasheet-pdf/view/464696/MAXIM/MAX7219.html
footprint DIP24
footprint SOP24
pins: 1 DIN, 2 DIG0, 3 DIG4, 4 GND, 5 DIG6, 6 DIG2, 6 DIG3, 8 DIG7, 9 GND, 10 DIG5, 11 DIG1, 12 LOAD/CS, 13 CLK, 14 SEGA, 15 SEGF, 16 SEGB, 17 SEGG, 18 ISET, 19 V+, 20 SEGC, 21 SEGE, 22 SEGDP, 23 SEGD, 24 DOUT
text: Max 7219

## MIC 9767
designator MIC?, comment MIC9767
Microphone 9767 9.7x6.7mm; Pin distance: 2.54mm
footprint MICRONPHONE 9767
pins: 1 VCC (power), 2 GND (power)

## MICROSDCARD
designator U?, comment MicroSD Card
pins: 1 GND, 2 VCC, 3 MISO, 4 MOSI, 5 SCK, 6 CS

## MLX90614
designator U?
Cam bien nhiet do hong ngoai
pins: 1 VIN, 2 GND, 3 SCL, 4 SDA

## Module BUCK 3A
designator M?, comment BUCK 3A
Module ha ap 3A MP14820S MP1584 DSN-MINI-360; Input Voltage: 4.75-23V; Output Voltage: 1-17V
footprint BUCK 3A 17x11x4mm (DSN-MINI-360)
pins: 1 IN+, 2 IN-, 3 OUT+, 4 OUT-

## Module L298
designator U?
pins: 1 +12, 2 GND, 3 +5, 4 ENA, 5 IN1, 6 IN2, 7 IN3, 8 IN4, 9 ENB, 10 OUT2, 11 OUT1, 12 OUT4, 13 OUT3

## Module PCF8574
designator U?
pins: 1 VCC, 2 GND, 3 SDA, 4 SCL, 5 P0, 6 P1, 7 P2, 8 P3, 9 P4, 10 P5, 11 P6, 12 P7, 13 INT

## Module TTP223
designator U?
footprint Module TTP223
pins: 1 GND, 2 I/O, 3 VCC

## MORNSUN TD501D232H
designator U?, comment TD501D232H
VN_link: https://linhkienhdshop.com/products/mach-cach-ly-rs232-td501d232h-arduino-stm32
footprint MORNSUN TD501D232H
pins: 1 VCC (power), 2 GND, 3 TXD (hiz), 4 RXD (hiz), 6 R_IN (hiz), 7 T_OUT (hiz), 8 RGND (hiz)

## Motor symbol
designator M?, comment Motor
pins: 47, 48

## NODEMCU 1.0
designator U?, comment ESP8266
ESP8266 nodemcu 1.0
footprint NODE MCU CH340
footprint NODE MCU CP2102
pins: 1 3V3, 2 GND, 3 TX, 4 RX, 5 D8, 6 D7, 7 D6, 8 D5, 9 GND, 10 3V3, 11 D4, 12 D3, 13 D2, 14 D1, 15 D0, 16 A0, 17 RSV, 18 RSV, 19 SD3, 20 SD2, 21 SD1, 22 CMD, 23 SD0, 24 CLK, 25 GND, 26 3V3, 27 EN, 28 RST, 29 GND, 30 Vin

## OLED_128X64_1.3_I2C
designator DS?
Non-Touch Graphic LCD Display Module Transmissive White OLED, Monochrome I2C 1.3 (33.02mm) 128 x 64; MF: UNIVERSAL-SOLDER Electronics Ltd; MP: OLED 128x64 1.3&quot; I2C; SnapEDA_Link: https://www.snapeda.com/parts/OLED%20128x64%201.3%22%20I2C/UNIVERSAL-SOLDER+Electronics+Ltd/view-part/?ref=snap; Package: None; Value: *; Check_prices: https://www.snapeda.com/parts/OLED%20128x64%201.3%22%20I2C/UNIVERSAL-SOLDER+Electronics+Ltd/view-part/?ref=eda
footprint LCD_OLED_128X64_1.3_I2C - duplicate
pins: 1 VDD (power), 2 GND (power), 3 SCK (in), 4 SDA (io)

## PCF8574
designator U?
footprint DIP16 (16 PIN, W 300mil, Pin to pin 100mil)
pins: 1 A0 (in), 2 A1 (in), 3 A2 (in), 4 P0 (io), 5 P1 (io), 6 P2 (io), 7 P3 (io), 8 VSS, 9 P4 (io), 10 P5 (io), 11 P6 (io), 12 P7 (io), 13 INT, 14 SCL, 15 SDA, 16 VDD

## R2W
designator R?, comment 47/2W
Resistor 2W; Value: R2W - 47
footprint R2W (R2W, 2 pin, 700mil)
footprint R2WD (R2W, 2 pin, 700mil)
pins: 1, 2

## Raspberry Pi 4
designator U?
pins: 1 3V3 (power), 2 5V (power), 3 GPIO2/SDA (io), 4 5V (power), 5 GPIO3/SCL (io), 6 GND (power), 7 GPIO4/GPCKL0 (io), 8 GPIO14/TXD (io), 9 GND (power), 10 GPIO15/RXD (io), 11 GPIO17 (io), 12 GPIO18/PCM_CLK (io), 13 GPIO27 (io), 14 GND (power), 15 GPIO22 (io), 16 GPIO23 (io), 17 3V3 (power), 18 GPIO24 (io), 19 GPIO10/MOSI (io), 20 GND (power), 21 GPIO9/MISO (io), 22 GPIO25 (io), 23 GPIO11/SCLK (io), 24 GPIO8/CE0 (io), 25 GND (power), 26 GPIO7/CE1 (io), 27 GPIO0/ID_SD (io), 28 GPIO1/ID_SC (io), 29 GPIO5 (io), 30 GND (power), 31 GPIO6 (io), 32 GPIO12/PWM0 (io), 33 GPIO13/PWM1 (io), 34 GND (power), 35 GPIO19(PCM_FS) (io), 36 GPIO16 (io), 37 GPIO26 (io), 38 GPIO20/PCM_DIN (io), 39 GND (power), 40 GPIO21/PCM_DOUT (io)

## Relay 30A 4P
designator RL?, comment HF105F-1/005D-1HS
Relay hongfa 30A 4P HF105F-1/005D-1HS
footprint Relay-HF-30A-Form-A
pins: 1, 3, 4, 5

## Relay HF 10A
designator RL?, comment HF32F-G/005-HS
Relay hongfa 10A 4P HF32F-G/005-HS; ComponentLink1Description: Datasheet; ComponentLink1URL: https://pdf1.alldatasheet.com/datasheet-pdf/view/312455/HONGFA/HF32F-G/005-HXXX.html
footprint HF32F-G (Hongfa 10A 4 pins)
pins: 1, 3, 4, 5

## Relay Panasonic LQ
designator RL?, comment ALQ Relay
ALQ Relay 10A; ComponentLink1Description: Datasheet; ComponentLink1URL: https://api.pim.na.industrial.panasonic.com/file_stream/main/fileversion/306
footprint Relay-LQ-form-C
pins: 1, 2, 3, 4, 5

## Relay Songle 4P
designator RL?, comment SRSB
Relay Songle 10A 4P SRSB-05VDC-SL-A; ComponentLink1Description: Datasheet; ComponentLink1URL: https://pdf1.alldatasheet.com/datasheet-pdf/view/1134322/SONGLERELAY/SRSB-5VDC-SL-A.html
footprint Songle SRSB (Relay Songle 4 pins)
pins: 1, 3, 4, 5

## Relay SSR 2A
designator R?, comment SSR 2A
Relay SSR 2A G3MB-202P
footprint G3MB-202P (Relay SSR)
pins: 1, 2, 3 +, 4 -
text: SSR

## Res
designator R?
footprint RES-1/4W
footprint R2W (R2W, 2 pin, 700mil)
footprint R2WD (R2W, 2 pin, 150mil)
footprint RES-1/4WD
footprint RES-1/2W
footprint RES-1/4W-SMALL
footprint RES-1W
footprint RES-1WD
footprint RES-1/2W  5%
footprint RES-1/2W  1%
pins: 1, 2

## RJ11
designator J?
RJ11 6P6C
footprint RJ11 6P6C
pins: 1, 2, 3, 4, 5, 6

## Robot ARM symbol
designator U?, comment Robot ARM 6DoF
pins: 45 VCC, 46 GND

## S8050
designator Q?, comment S8050-D
S8050-D 25V 1.5A NPN 40V 0.5A NPN; ComponentLink1Description: Datasheet; ComponentLink1URL: https://www.alldatasheet.com/datasheet-pdf/view/433163/MCC/S8050-D.html; ComponentLink2Description: Datasheet2; ComponentLink2URL: https://www.onsemi.com/pdf/datasheet/ss8050-d.pdf
footprint TO92-EBC (TO-92)
footprint SOT23-321
pins: 1 E, 2 C, 3 B

## SPEAKER
designator SP?
Buzzer
footprint BUZZER 7.6MM
pins: 1, 2

## STM32F030F4P6
designator U?
pins: 1 BOOT0, 2 PF0/OSC_IN, 3 PF1/OSC_OUT, 4 NRST, 5 VDDA, 6 PA0, 7 PA1, 8 PA2/USART_TX, 9 PA3/USART_RX, 10 PA4/SPI_CS, 11 PA5/SPI_SCK, 12 PA6/SPI_MISO, 13 PA7/SPI_MOSI, 14 PB1/TIM3_CH4, 15 VSS, 16 VDD, 17 PA9/I2C_SCL, 18 PA10/I2C_SDA, 19 PA13/SWIO, 20 PA14/SWCLK

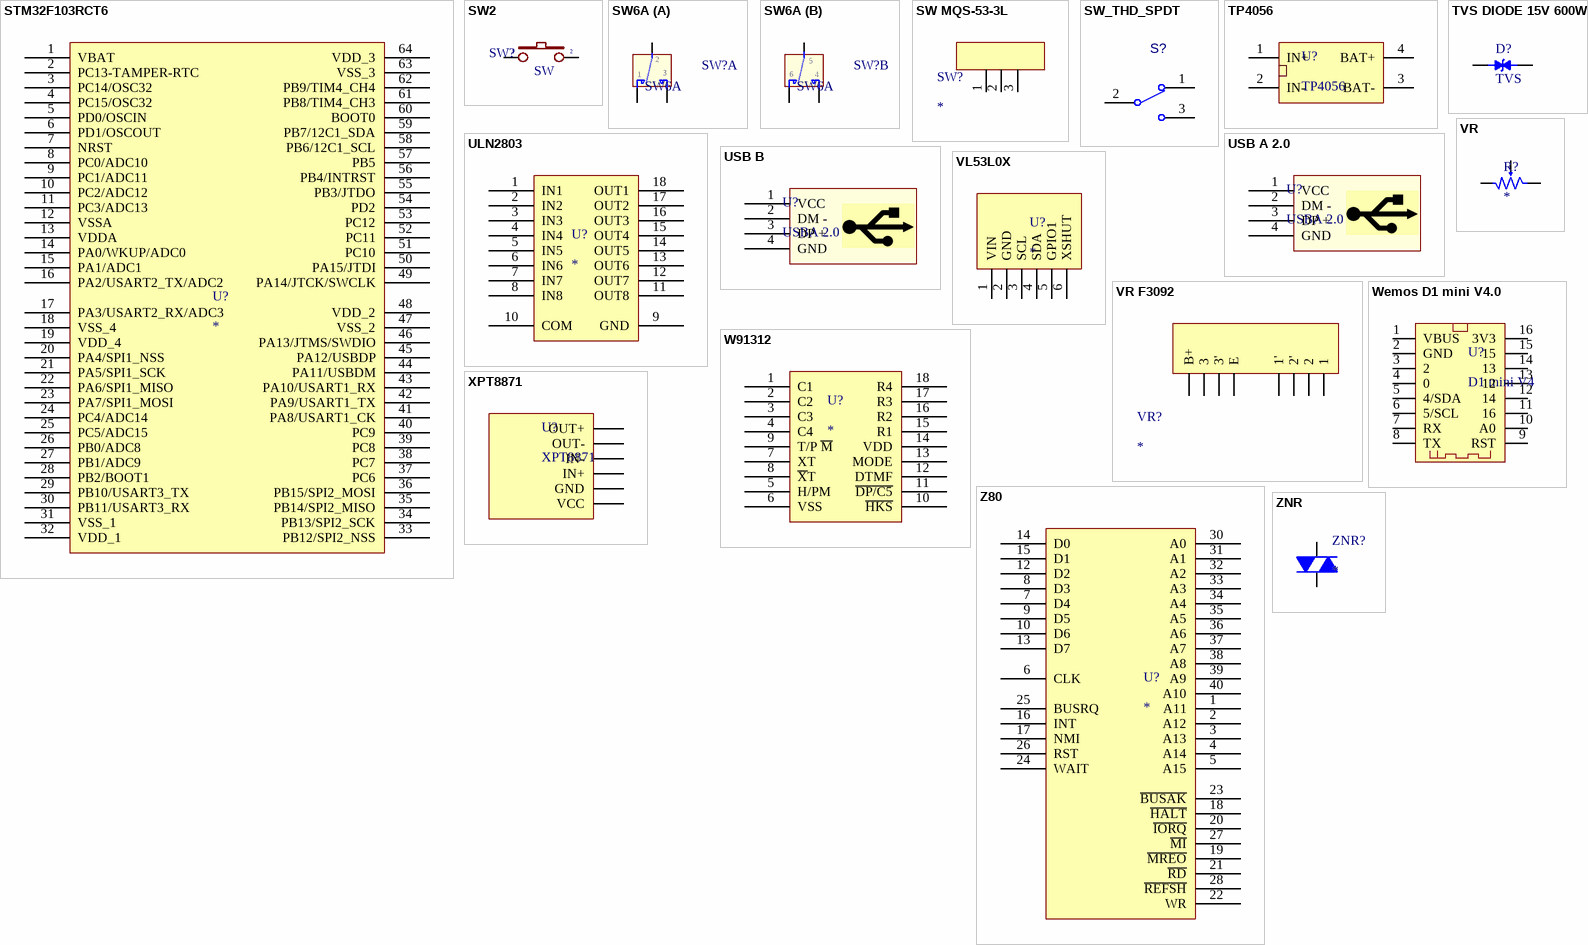
[diagram p4: symbols STM32F103RCT6 to ZNR]

## STM32F103RCT6
designator U?
pins: 1 VBAT, 2 PC13-TAMPER-RTC, 3 PC14/OSC32, 4 PC15/OSC32, 5 PD0/OSCIN, 6 PD1/OSCOUT, 7 NRST, 8 PC0/ADC10, 9 PC1/ADC11, 10 PC2/ADC12, 11 PC3/ADC13, 12 VSSA, 13 VDDA, 14 PA0/WKUP/ADC0, 15 PA1/ADC1, 16 PA2/USART2_TX/ADC2, 17 PA3/USART2_RX/ADC3, 18 VSS_4, 19 VDD_4, 20 PA4/SPI1_NSS, 21 PA5/SPI1_SCK, 22 PA6/SPI1_MISO, 23 PA7/SPI1_MOSI, 24 PC4/ADC14, 25 PC5/ADC15, 26 PB0/ADC8, 27 PB1/ADC9, 28 PB2/BOOT1, 29 PB10/USART3_TX, 30 PB11/USART3_RX, 31 VSS_1, 32 VDD_1, 33 PB12/SPI2_NSS, 34 PB13/SPI2_SCK, 35 PB14/SPI2_MISO, 36 PB15/SPI2_MOSI, 37 РС6, 38 PC7, 39 PC8, 40 PC9, 41 PA8/USART1_CK, 42 PA9/USART1_TX, 43 PA10/USART1_RX, 44 PA11/USBDM, 45 PA12/USBDP, 46 PA13/JTMS/SWDIO, 47 VSS_2, 48 VDD_2, 49 PA14/JTCK/SWCLK, 50 PA15/JTDI, 51 PC10, 52 PC11, 53 PC12, 54 PD2, 55 PB3/JTDO, 56 PB4/INTRST, 57 PB5, 58 PB6/12C1_SCL, 59 PB7/12C1_SDA, 60 BOOT0, 61 PB8/TIM4_CH3, 62 PB9/TIM4_CH4, 63 VSS_3, 64 VDD_3

## SW2
designator SW?, comment SW
Switch button 2 pin; Value: SW chip 2 pin
footprint SW2 6x6mm (SW button 2pin, 250x 250 mil)
footprint SW2_D (SW button 2pin, 300x 300 x 250 mil)
footprint SW2 6x6MM Circle (SW button 2pin, 250x 250 mil 6x6mm)
pins: 1, 2

## SW6A
designator SW?
SW-DTDP - 6 Pin; Value: SW6
footprint SWITCH DPDT 7x7mm 2mm
footprint SWITCH DPDT 8x8mm 2.5mm
part A pins: 1, 2, 3
part B pins: 4, 5, 6

## SW MQS-53-3L
designator SW?
footprint SW KW10-Z1P
pins: 1, 2 17, 3 16

## SW_THD_SPDT
designator S?
Switch THD vertical toggle SPDT; Manufacturer 1: TE Connectivity; Manufacturer Part Number 1: SLS121PC04; Contact Rating @ Voltage: 0.25A @ 125VAC; SCDType: spec; Circuit: SPDT; Mounting Type: PCB mount; Supplier 1: Digi-Key; Supplier Part Number 1: 450-1598-ND
footprint SWITCH SPDT 1P2T 2mm (TE Connectivity SLS121PC04 SPDT slider)
footprint SWITCH SPDT 1P2T 3mm
pins: 1, 2, 3

## TP4056
designator U?
Module sac pin
pins: 1 IN+, 2 IN-, 3 BAT-, 4 BAT+

## TVS DIODE 15V 600W
designator D?, comment TVS
SMBJ15CA, 600W, 17.6V, 5%, Bidirectional, TVS; MF: Taiwan Semiconductor Corporation; SnapEDA_Link: https://www.snapeda.com/parts/SMBJ15CA/Taiwan+Semiconductor+Corporation/view-part/?ref=snap; Package: DO-214AA-2 Taiwan Semiconductor; MP: SMBJ15CA; Value: *; Purchase-URL: https://pricing.snapeda.com/search/part/SMBJ15CA/?ref=eda; Check_prices: https://www.snapeda.com/parts/SMBJ15CA/Taiwan+Semiconductor+Corporation/view-part/?ref=eda; Availability: In Stock; Price: None
footprint DO-214AA
pins: 1, 2

## ULN2803
designator U?
footprint DIP18 (18 PIN, W 300mil, Pin to pin 100mil)
pins: 1 IN1, 2 IN2, 3 IN3, 4 IN4, 5 IN5, 6 IN6, 7 IN7, 8 IN8, 9 GND, 10 COM, 11 OUT8, 12 OUT7, 13 OUT6, 14 OUT5, 15 OUT4, 16 OUT3, 17 OUT2, 18 OUT1

## USB A 2.0
designator U?, comment USBA 2.0
footprint USBA 2.0 CN DIP (THT, USB 2.0 A Connector, 4Pin, Body 15.8 x14.5mm)
footprint USBA 2.0 DN DIP
footprint USBA 2.0 DN SMD (For USB SMD)
footprint USBA 2.0 CD DIP
pins: 1 VCC, 2 DM -, 3 DP +, 4 GND

## USB B
designator U?, comment USBA 2.0
footprint USB B CD DIP
footprint USB B CN DIP
pins: 1 VCC, 2 DM -, 3 DP +, 4 GND

## VL53L0X
designator U?
footprint VL53L0X
pins: 1 VIN, 2 GND, 3 SCL, 4 SDA, 5 GPIO1, 6 XSHUT

## VR
designator R?
footprint VR-VCS (Volumn control single)
pins: 1, 2, 3

## VR F3092
designator VR?
footprint VR Thanh
pins: 1, 1', 2, 2', 3, 3', B+, E

## W91312
designator U?
footprint DIP18 (18 PIN, W 300mil, Pin to pin 100mil)
pins: 1 C1, 2 C2, 3 C3, 4 C4, 5 H/PM, 6 VSS, 7 XT, 8 ~{X}T, 9 T/P ~{M}, 10 ~{HKS}, 11 ~{DP/C5}, 12 DTMF, 13 MODE, 14 VDD, 15 R1, 16 R2, 17 R3, 18 R4

## Wemos D1 mini V4.0
designator U?, comment D1 mini V4
ESP8266 D1
footprint WEMOS D1 MINI V4
footprint WEMOS D1 MINI V4 USD
pins: 1 VBUS, 2 GND, 3 2, 4 0, 5 4/SDA, 6 5/SCL, 7 RX, 8 TX, 9 RST, 10 A0, 11 16, 12 14, 13 12, 14 13, 15, 16 3V3

## XPT8871
designator U?
pins: 1 VCC, 2 GND, 3 IN+, 4 IN-, 5 OUT-, 6 OUT+

## Z80
designator U?
pins: 1 A11, 2 A12, 3 A13, 4 A14, 5 A15, 6 CLK, 7 D4, 8 D3, 9 D5, 10 D6, 12 D2, 13 D7, 14 D0, 15 D1, 16 INT, 17 NMI, 18 ~{HALT}, 19 ~{MREO}, 20 ~{IORQ}, 21 ~{RD}, 22 WR, 23 ~{BUSAK}, 24 WAIT, 25 BUSRQ, 26 RST, 27 ~{MI}, 28 ~{REFSH}, 30 A0, 31 A1, 32 A2, 33 A3, 34 A4, 35 A5, 36 A6, 37 A7, 38 A8, 39 A9, 40 A10

## ZNR
designator ZNR?
MOV; Pin distance: 7.62mm
footprint Cap 7.5mm
pins: 1 A, 2 K